# EAGLE library part MCP1640 (library GeekAmmo)
MCP1640 0.65V Start-up Synchronous Boost Regulator with True Output Disconnect or Input/Output Bypass Option The MCP1640/B/C/D is a compact, high-efficiency, fixed frequency, synchronous step-up DC-DC converter. http://ww1.microchip.com/downloads/en/DeviceDoc/22234B.pdf
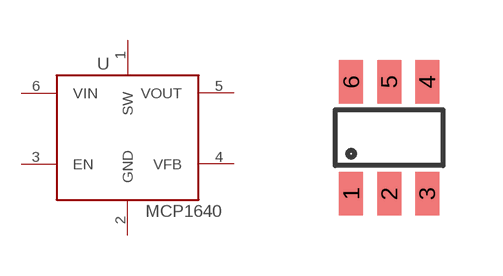
[diagram p1: symbol with the pads of SOT23-6; footprint SOT23-6]

Designator prefix -

## MCP1640  [SOT23-6]
1  SW  pas
2  GND  pwr
3  EN  in
4  VFB  in
5  VOUT  pwr
6  VIN  pwr

## Footprint SOT23-6 (pad centres in mm)
SOT23-6
smd 0.6 x 1.1: 1 0,0; 2 0.95,0; 3 1.9,0; 4 1.9,2.8; 5 0.95,2.8; 6 0,2.8